# Altium integrated library Renesas Diode.IntLib: 1609 symbols (part 15 of 31)
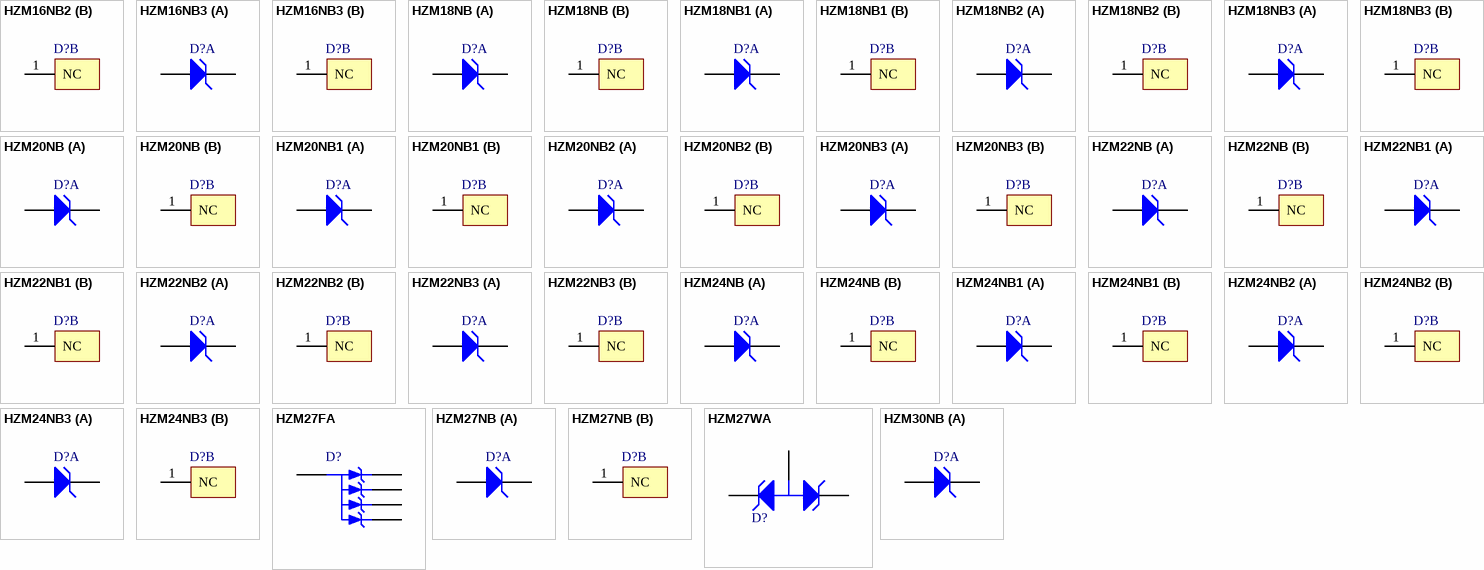
[diagram p59: symbols HZM16NB2 to HZM30NB]

## HZM16NB2
designator D?
Silicon Epitaxial Planar Zener Diode for Stabilizer; Published: 12-Feb-2010; DatasheetVersion: Rev.5.00, Dec-2004; PackageVersion: Aug-2005; PackageReference: PLSP0003ZC-A; Publisher: Altium Limited; PackageDescription: 3-Pin Plastic SOT-23 Package 0.95 mm Pitch, 2.8 mm Lead Span - Alternate Lead Configuration (MPAK); Code_JEITA: SC-59A; ComponentLink1Description: Manufacturer Link; ComponentLink1URL: http://sg.renesas.com/fmwk.jsp?cnt=diode_landing.jsp&fp=/products/discrete/diodes/; ComponentLink2Description: Datasheet; ComponentLink2URL: http://documentation.renesas.com/eng/products/diode/rej03g0483_hzm_n.pdf; ComponentLink3Description: Packaging Specification; ComponentLink3URL: http://sg.renesas.com/media/products/common_info/package/pdf/diode/code/plsp0003zc_a.pdf
footprint PLSP0003ZC-A_N (SOT23, 3-Leads, Body 2.9x1.5mm, Pitch 0.95mm, Lead Span 2.8mm - Alternate Lead Configuration, IPC Medium Density)
footprint PLSP0003ZC-A_L (SOT23, 3-Leads, Body 2.9x1.5mm, Pitch 0.95mm, Lead Span 2.8mm - Alternate Lead Configuration, IPC High Density)
footprint PLSP0003ZC-A_M (SOT23, 3-Leads, Body 2.9x1.5mm, Pitch 0.95mm, Lead Span 2.8mm - Alternate Lead Configuration, IPC Low Density)
signal-integrity model HZM16NB2
part A pins: 2 A, 3 K
part B pins: 1 NC

## HZM16NB3
designator D?
Silicon Epitaxial Planar Zener Diode for Stabilizer; Published: 12-Feb-2010; DatasheetVersion: Rev.5.00, Dec-2004; PackageVersion: Aug-2005; PackageReference: PLSP0003ZC-A; Publisher: Altium Limited; PackageDescription: 3-Pin Plastic SOT-23 Package 0.95 mm Pitch, 2.8 mm Lead Span - Alternate Lead Configuration (MPAK); Code_JEITA: SC-59A; ComponentLink1Description: Manufacturer Link; ComponentLink1URL: http://sg.renesas.com/fmwk.jsp?cnt=diode_landing.jsp&fp=/products/discrete/diodes/; ComponentLink2Description: Datasheet; ComponentLink2URL: http://documentation.renesas.com/eng/products/diode/rej03g0483_hzm_n.pdf; ComponentLink3Description: Packaging Specification; ComponentLink3URL: http://sg.renesas.com/media/products/common_info/package/pdf/diode/code/plsp0003zc_a.pdf
footprint PLSP0003ZC-A_N (SOT23, 3-Leads, Body 2.9x1.5mm, Pitch 0.95mm, Lead Span 2.8mm - Alternate Lead Configuration, IPC Medium Density)
footprint PLSP0003ZC-A_L (SOT23, 3-Leads, Body 2.9x1.5mm, Pitch 0.95mm, Lead Span 2.8mm - Alternate Lead Configuration, IPC High Density)
footprint PLSP0003ZC-A_M (SOT23, 3-Leads, Body 2.9x1.5mm, Pitch 0.95mm, Lead Span 2.8mm - Alternate Lead Configuration, IPC Low Density)
signal-integrity model HZM16NB3
part A pins: 2 A, 3 K
part B pins: 1 NC

## HZM18NB
designator D?
Silicon Epitaxial Planar Zener Diode for Stabilizer; Published: 12-Feb-2010; DatasheetVersion: Rev.5.00, Dec-2004; PackageVersion: Aug-2005; PackageReference: PLSP0003ZC-A; Publisher: Altium Limited; PackageDescription: 3-Pin Plastic SOT-23 Package 0.95 mm Pitch, 2.8 mm Lead Span - Alternate Lead Configuration (MPAK); Code_JEITA: SC-59A; ComponentLink1Description: Manufacturer Link; ComponentLink1URL: http://sg.renesas.com/fmwk.jsp?cnt=diode_landing.jsp&fp=/products/discrete/diodes/; ComponentLink2Description: Datasheet; ComponentLink2URL: http://documentation.renesas.com/eng/products/diode/rej03g0483_hzm_n.pdf; ComponentLink3Description: Packaging Specification; ComponentLink3URL: http://sg.renesas.com/media/products/common_info/package/pdf/diode/code/plsp0003zc_a.pdf
footprint PLSP0003ZC-A_N (SOT23, 3-Leads, Body 2.9x1.5mm, Pitch 0.95mm, Lead Span 2.8mm - Alternate Lead Configuration, IPC Medium Density)
footprint PLSP0003ZC-A_L (SOT23, 3-Leads, Body 2.9x1.5mm, Pitch 0.95mm, Lead Span 2.8mm - Alternate Lead Configuration, IPC High Density)
footprint PLSP0003ZC-A_M (SOT23, 3-Leads, Body 2.9x1.5mm, Pitch 0.95mm, Lead Span 2.8mm - Alternate Lead Configuration, IPC Low Density)
signal-integrity model HZM18NB
part A pins: 2 A, 3 K
part B pins: 1 NC

## HZM18NB1
designator D?
Silicon Epitaxial Planar Zener Diode for Stabilizer; Published: 12-Feb-2010; DatasheetVersion: Rev.5.00, Dec-2004; PackageVersion: Aug-2005; PackageReference: PLSP0003ZC-A; Publisher: Altium Limited; PackageDescription: 3-Pin Plastic SOT-23 Package 0.95 mm Pitch, 2.8 mm Lead Span - Alternate Lead Configuration (MPAK); Code_JEITA: SC-59A; ComponentLink1Description: Manufacturer Link; ComponentLink1URL: http://sg.renesas.com/fmwk.jsp?cnt=diode_landing.jsp&fp=/products/discrete/diodes/; ComponentLink2Description: Datasheet; ComponentLink2URL: http://documentation.renesas.com/eng/products/diode/rej03g0483_hzm_n.pdf; ComponentLink3Description: Packaging Specification; ComponentLink3URL: http://sg.renesas.com/media/products/common_info/package/pdf/diode/code/plsp0003zc_a.pdf
footprint PLSP0003ZC-A_N (SOT23, 3-Leads, Body 2.9x1.5mm, Pitch 0.95mm, Lead Span 2.8mm - Alternate Lead Configuration, IPC Medium Density)
footprint PLSP0003ZC-A_L (SOT23, 3-Leads, Body 2.9x1.5mm, Pitch 0.95mm, Lead Span 2.8mm - Alternate Lead Configuration, IPC High Density)
footprint PLSP0003ZC-A_M (SOT23, 3-Leads, Body 2.9x1.5mm, Pitch 0.95mm, Lead Span 2.8mm - Alternate Lead Configuration, IPC Low Density)
signal-integrity model HZM18NB1
part A pins: 2 A, 3 K
part B pins: 1 NC

## HZM18NB2
designator D?
Silicon Epitaxial Planar Zener Diode for Stabilizer; Published: 12-Feb-2010; DatasheetVersion: Rev.5.00, Dec-2004; PackageVersion: Aug-2005; PackageReference: PLSP0003ZC-A; Publisher: Altium Limited; PackageDescription: 3-Pin Plastic SOT-23 Package 0.95 mm Pitch, 2.8 mm Lead Span - Alternate Lead Configuration (MPAK); Code_JEITA: SC-59A; ComponentLink1Description: Manufacturer Link; ComponentLink1URL: http://sg.renesas.com/fmwk.jsp?cnt=diode_landing.jsp&fp=/products/discrete/diodes/; ComponentLink2Description: Datasheet; ComponentLink2URL: http://documentation.renesas.com/eng/products/diode/rej03g0483_hzm_n.pdf; ComponentLink3Description: Packaging Specification; ComponentLink3URL: http://sg.renesas.com/media/products/common_info/package/pdf/diode/code/plsp0003zc_a.pdf
footprint PLSP0003ZC-A_N (SOT23, 3-Leads, Body 2.9x1.5mm, Pitch 0.95mm, Lead Span 2.8mm - Alternate Lead Configuration, IPC Medium Density)
footprint PLSP0003ZC-A_L (SOT23, 3-Leads, Body 2.9x1.5mm, Pitch 0.95mm, Lead Span 2.8mm - Alternate Lead Configuration, IPC High Density)
footprint PLSP0003ZC-A_M (SOT23, 3-Leads, Body 2.9x1.5mm, Pitch 0.95mm, Lead Span 2.8mm - Alternate Lead Configuration, IPC Low Density)
signal-integrity model HZM18NB2
part A pins: 2 A, 3 K
part B pins: 1 NC

## HZM18NB3
designator D?
Silicon Epitaxial Planar Zener Diode for Stabilizer; Published: 12-Feb-2010; DatasheetVersion: Rev.5.00, Dec-2004; PackageVersion: Aug-2005; PackageReference: PLSP0003ZC-A; Publisher: Altium Limited; PackageDescription: 3-Pin Plastic SOT-23 Package 0.95 mm Pitch, 2.8 mm Lead Span - Alternate Lead Configuration (MPAK); Code_JEITA: SC-59A; ComponentLink1Description: Manufacturer Link; ComponentLink1URL: http://sg.renesas.com/fmwk.jsp?cnt=diode_landing.jsp&fp=/products/discrete/diodes/; ComponentLink2Description: Datasheet; ComponentLink2URL: http://documentation.renesas.com/eng/products/diode/rej03g0483_hzm_n.pdf; ComponentLink3Description: Packaging Specification; ComponentLink3URL: http://sg.renesas.com/media/products/common_info/package/pdf/diode/code/plsp0003zc_a.pdf
footprint PLSP0003ZC-A_N (SOT23, 3-Leads, Body 2.9x1.5mm, Pitch 0.95mm, Lead Span 2.8mm - Alternate Lead Configuration, IPC Medium Density)
footprint PLSP0003ZC-A_L (SOT23, 3-Leads, Body 2.9x1.5mm, Pitch 0.95mm, Lead Span 2.8mm - Alternate Lead Configuration, IPC High Density)
footprint PLSP0003ZC-A_M (SOT23, 3-Leads, Body 2.9x1.5mm, Pitch 0.95mm, Lead Span 2.8mm - Alternate Lead Configuration, IPC Low Density)
signal-integrity model HZM18NB3
part A pins: 2 A, 3 K
part B pins: 1 NC

## HZM20NB
designator D?
Silicon Epitaxial Planar Zener Diode for Stabilizer; Published: 12-Feb-2010; DatasheetVersion: Rev.5.00, Dec-2004; PackageVersion: Aug-2005; PackageReference: PLSP0003ZC-A; Publisher: Altium Limited; PackageDescription: 3-Pin Plastic SOT-23 Package 0.95 mm Pitch, 2.8 mm Lead Span - Alternate Lead Configuration (MPAK); Code_JEITA: SC-59A; ComponentLink1Description: Manufacturer Link; ComponentLink1URL: http://sg.renesas.com/fmwk.jsp?cnt=diode_landing.jsp&fp=/products/discrete/diodes/; ComponentLink2Description: Datasheet; ComponentLink2URL: http://documentation.renesas.com/eng/products/diode/rej03g0483_hzm_n.pdf; ComponentLink3Description: Packaging Specification; ComponentLink3URL: http://sg.renesas.com/media/products/common_info/package/pdf/diode/code/plsp0003zc_a.pdf
footprint PLSP0003ZC-A_N (SOT23, 3-Leads, Body 2.9x1.5mm, Pitch 0.95mm, Lead Span 2.8mm - Alternate Lead Configuration, IPC Medium Density)
footprint PLSP0003ZC-A_L (SOT23, 3-Leads, Body 2.9x1.5mm, Pitch 0.95mm, Lead Span 2.8mm - Alternate Lead Configuration, IPC High Density)
footprint PLSP0003ZC-A_M (SOT23, 3-Leads, Body 2.9x1.5mm, Pitch 0.95mm, Lead Span 2.8mm - Alternate Lead Configuration, IPC Low Density)
signal-integrity model HZM20NB
part A pins: 2 A, 3 K
part B pins: 1 NC

## HZM20NB1
designator D?
Silicon Epitaxial Planar Zener Diode for Stabilizer; Published: 12-Feb-2010; DatasheetVersion: Rev.5.00, Dec-2004; PackageVersion: Aug-2005; PackageReference: PLSP0003ZC-A; Publisher: Altium Limited; PackageDescription: 3-Pin Plastic SOT-23 Package 0.95 mm Pitch, 2.8 mm Lead Span - Alternate Lead Configuration (MPAK); Code_JEITA: SC-59A; ComponentLink1Description: Manufacturer Link; ComponentLink1URL: http://sg.renesas.com/fmwk.jsp?cnt=diode_landing.jsp&fp=/products/discrete/diodes/; ComponentLink2Description: Datasheet; ComponentLink2URL: http://documentation.renesas.com/eng/products/diode/rej03g0483_hzm_n.pdf; ComponentLink3Description: Packaging Specification; ComponentLink3URL: http://sg.renesas.com/media/products/common_info/package/pdf/diode/code/plsp0003zc_a.pdf
footprint PLSP0003ZC-A_N (SOT23, 3-Leads, Body 2.9x1.5mm, Pitch 0.95mm, Lead Span 2.8mm - Alternate Lead Configuration, IPC Medium Density)
footprint PLSP0003ZC-A_L (SOT23, 3-Leads, Body 2.9x1.5mm, Pitch 0.95mm, Lead Span 2.8mm - Alternate Lead Configuration, IPC High Density)
footprint PLSP0003ZC-A_M (SOT23, 3-Leads, Body 2.9x1.5mm, Pitch 0.95mm, Lead Span 2.8mm - Alternate Lead Configuration, IPC Low Density)
signal-integrity model HZM20NB1
part A pins: 2 A, 3 K
part B pins: 1 NC

## HZM20NB2
designator D?
Silicon Epitaxial Planar Zener Diode for Stabilizer; Published: 12-Feb-2010; DatasheetVersion: Rev.5.00, Dec-2004; PackageVersion: Aug-2005; PackageReference: PLSP0003ZC-A; Publisher: Altium Limited; PackageDescription: 3-Pin Plastic SOT-23 Package 0.95 mm Pitch, 2.8 mm Lead Span - Alternate Lead Configuration (MPAK); Code_JEITA: SC-59A; ComponentLink1Description: Manufacturer Link; ComponentLink1URL: http://sg.renesas.com/fmwk.jsp?cnt=diode_landing.jsp&fp=/products/discrete/diodes/; ComponentLink2Description: Datasheet; ComponentLink2URL: http://documentation.renesas.com/eng/products/diode/rej03g0483_hzm_n.pdf; ComponentLink3Description: Packaging Specification; ComponentLink3URL: http://sg.renesas.com/media/products/common_info/package/pdf/diode/code/plsp0003zc_a.pdf
footprint PLSP0003ZC-A_N (SOT23, 3-Leads, Body 2.9x1.5mm, Pitch 0.95mm, Lead Span 2.8mm - Alternate Lead Configuration, IPC Medium Density)
footprint PLSP0003ZC-A_L (SOT23, 3-Leads, Body 2.9x1.5mm, Pitch 0.95mm, Lead Span 2.8mm - Alternate Lead Configuration, IPC High Density)
footprint PLSP0003ZC-A_M (SOT23, 3-Leads, Body 2.9x1.5mm, Pitch 0.95mm, Lead Span 2.8mm - Alternate Lead Configuration, IPC Low Density)
signal-integrity model HZM20NB2
part A pins: 2 A, 3 K
part B pins: 1 NC

## HZM20NB3
designator D?
Silicon Epitaxial Planar Zener Diode for Stabilizer; Published: 12-Feb-2010; DatasheetVersion: Rev.5.00, Dec-2004; PackageVersion: Aug-2005; PackageReference: PLSP0003ZC-A; Publisher: Altium Limited; PackageDescription: 3-Pin Plastic SOT-23 Package 0.95 mm Pitch, 2.8 mm Lead Span - Alternate Lead Configuration (MPAK); Code_JEITA: SC-59A; ComponentLink1Description: Manufacturer Link; ComponentLink1URL: http://sg.renesas.com/fmwk.jsp?cnt=diode_landing.jsp&fp=/products/discrete/diodes/; ComponentLink2Description: Datasheet; ComponentLink2URL: http://documentation.renesas.com/eng/products/diode/rej03g0483_hzm_n.pdf; ComponentLink3Description: Packaging Specification; ComponentLink3URL: http://sg.renesas.com/media/products/common_info/package/pdf/diode/code/plsp0003zc_a.pdf
footprint PLSP0003ZC-A_N (SOT23, 3-Leads, Body 2.9x1.5mm, Pitch 0.95mm, Lead Span 2.8mm - Alternate Lead Configuration, IPC Medium Density)
footprint PLSP0003ZC-A_L (SOT23, 3-Leads, Body 2.9x1.5mm, Pitch 0.95mm, Lead Span 2.8mm - Alternate Lead Configuration, IPC High Density)
footprint PLSP0003ZC-A_M (SOT23, 3-Leads, Body 2.9x1.5mm, Pitch 0.95mm, Lead Span 2.8mm - Alternate Lead Configuration, IPC Low Density)
signal-integrity model HZM20NB3
part A pins: 2 A, 3 K
part B pins: 1 NC

## HZM22NB
designator D?
Silicon Epitaxial Planar Zener Diode for Stabilizer; Published: 12-Feb-2010; DatasheetVersion: Rev.5.00, Dec-2004; PackageVersion: Aug-2005; PackageReference: PLSP0003ZC-A; Publisher: Altium Limited; PackageDescription: 3-Pin Plastic SOT-23 Package 0.95 mm Pitch, 2.8 mm Lead Span - Alternate Lead Configuration (MPAK); Code_JEITA: SC-59A; ComponentLink1Description: Manufacturer Link; ComponentLink1URL: http://sg.renesas.com/fmwk.jsp?cnt=diode_landing.jsp&fp=/products/discrete/diodes/; ComponentLink2Description: Datasheet; ComponentLink2URL: http://documentation.renesas.com/eng/products/diode/rej03g0483_hzm_n.pdf; ComponentLink3Description: Packaging Specification; ComponentLink3URL: http://sg.renesas.com/media/products/common_info/package/pdf/diode/code/plsp0003zc_a.pdf
footprint PLSP0003ZC-A_N (SOT23, 3-Leads, Body 2.9x1.5mm, Pitch 0.95mm, Lead Span 2.8mm - Alternate Lead Configuration, IPC Medium Density)
footprint PLSP0003ZC-A_L (SOT23, 3-Leads, Body 2.9x1.5mm, Pitch 0.95mm, Lead Span 2.8mm - Alternate Lead Configuration, IPC High Density)
footprint PLSP0003ZC-A_M (SOT23, 3-Leads, Body 2.9x1.5mm, Pitch 0.95mm, Lead Span 2.8mm - Alternate Lead Configuration, IPC Low Density)
signal-integrity model HZM22NB
part A pins: 2 A, 3 K
part B pins: 1 NC

## HZM22NB1
designator D?
Silicon Epitaxial Planar Zener Diode for Stabilizer; Published: 12-Feb-2010; DatasheetVersion: Rev.5.00, Dec-2004; PackageVersion: Aug-2005; PackageReference: PLSP0003ZC-A; Publisher: Altium Limited; PackageDescription: 3-Pin Plastic SOT-23 Package 0.95 mm Pitch, 2.8 mm Lead Span - Alternate Lead Configuration (MPAK); Code_JEITA: SC-59A; ComponentLink1Description: Manufacturer Link; ComponentLink1URL: http://sg.renesas.com/fmwk.jsp?cnt=diode_landing.jsp&fp=/products/discrete/diodes/; ComponentLink2Description: Datasheet; ComponentLink2URL: http://documentation.renesas.com/eng/products/diode/rej03g0483_hzm_n.pdf; ComponentLink3Description: Packaging Specification; ComponentLink3URL: http://sg.renesas.com/media/products/common_info/package/pdf/diode/code/plsp0003zc_a.pdf
footprint PLSP0003ZC-A_N (SOT23, 3-Leads, Body 2.9x1.5mm, Pitch 0.95mm, Lead Span 2.8mm - Alternate Lead Configuration, IPC Medium Density)
footprint PLSP0003ZC-A_L (SOT23, 3-Leads, Body 2.9x1.5mm, Pitch 0.95mm, Lead Span 2.8mm - Alternate Lead Configuration, IPC High Density)
footprint PLSP0003ZC-A_M (SOT23, 3-Leads, Body 2.9x1.5mm, Pitch 0.95mm, Lead Span 2.8mm - Alternate Lead Configuration, IPC Low Density)
signal-integrity model HZM22NB1
part A pins: 2 A, 3 K
part B pins: 1 NC

## HZM22NB2
designator D?
Silicon Epitaxial Planar Zener Diode for Stabilizer; Published: 12-Feb-2010; DatasheetVersion: Rev.5.00, Dec-2004; PackageVersion: Aug-2005; PackageReference: PLSP0003ZC-A; Publisher: Altium Limited; PackageDescription: 3-Pin Plastic SOT-23 Package 0.95 mm Pitch, 2.8 mm Lead Span - Alternate Lead Configuration (MPAK); Code_JEITA: SC-59A; ComponentLink1Description: Manufacturer Link; ComponentLink1URL: http://sg.renesas.com/fmwk.jsp?cnt=diode_landing.jsp&fp=/products/discrete/diodes/; ComponentLink2Description: Datasheet; ComponentLink2URL: http://documentation.renesas.com/eng/products/diode/rej03g0483_hzm_n.pdf; ComponentLink3Description: Packaging Specification; ComponentLink3URL: http://sg.renesas.com/media/products/common_info/package/pdf/diode/code/plsp0003zc_a.pdf
footprint PLSP0003ZC-A_N (SOT23, 3-Leads, Body 2.9x1.5mm, Pitch 0.95mm, Lead Span 2.8mm - Alternate Lead Configuration, IPC Medium Density)
footprint PLSP0003ZC-A_L (SOT23, 3-Leads, Body 2.9x1.5mm, Pitch 0.95mm, Lead Span 2.8mm - Alternate Lead Configuration, IPC High Density)
footprint PLSP0003ZC-A_M (SOT23, 3-Leads, Body 2.9x1.5mm, Pitch 0.95mm, Lead Span 2.8mm - Alternate Lead Configuration, IPC Low Density)
signal-integrity model HZM22NB2
part A pins: 2 A, 3 K
part B pins: 1 NC

## HZM22NB3
designator D?
Silicon Epitaxial Planar Zener Diode for Stabilizer; Published: 12-Feb-2010; DatasheetVersion: Rev.5.00, Dec-2004; PackageVersion: Aug-2005; PackageReference: PLSP0003ZC-A; Publisher: Altium Limited; PackageDescription: 3-Pin Plastic SOT-23 Package 0.95 mm Pitch, 2.8 mm Lead Span - Alternate Lead Configuration (MPAK); Code_JEITA: SC-59A; ComponentLink1Description: Manufacturer Link; ComponentLink1URL: http://sg.renesas.com/fmwk.jsp?cnt=diode_landing.jsp&fp=/products/discrete/diodes/; ComponentLink2Description: Datasheet; ComponentLink2URL: http://documentation.renesas.com/eng/products/diode/rej03g0483_hzm_n.pdf; ComponentLink3Description: Packaging Specification; ComponentLink3URL: http://sg.renesas.com/media/products/common_info/package/pdf/diode/code/plsp0003zc_a.pdf
footprint PLSP0003ZC-A_N (SOT23, 3-Leads, Body 2.9x1.5mm, Pitch 0.95mm, Lead Span 2.8mm - Alternate Lead Configuration, IPC Medium Density)
footprint PLSP0003ZC-A_L (SOT23, 3-Leads, Body 2.9x1.5mm, Pitch 0.95mm, Lead Span 2.8mm - Alternate Lead Configuration, IPC High Density)
footprint PLSP0003ZC-A_M (SOT23, 3-Leads, Body 2.9x1.5mm, Pitch 0.95mm, Lead Span 2.8mm - Alternate Lead Configuration, IPC Low Density)
signal-integrity model HZM22NB3
part A pins: 2 A, 3 K
part B pins: 1 NC

## HZM24NB
designator D?
Silicon Epitaxial Planar Zener Diode for Stabilizer; Published: 12-Feb-2010; DatasheetVersion: Rev.5.00, Dec-2004; PackageVersion: Aug-2005; PackageReference: PLSP0003ZC-A; Publisher: Altium Limited; PackageDescription: 3-Pin Plastic SOT-23 Package 0.95 mm Pitch, 2.8 mm Lead Span - Alternate Lead Configuration (MPAK); Code_JEITA: SC-59A; ComponentLink1Description: Manufacturer Link; ComponentLink1URL: http://sg.renesas.com/fmwk.jsp?cnt=diode_landing.jsp&fp=/products/discrete/diodes/; ComponentLink2Description: Datasheet; ComponentLink2URL: http://documentation.renesas.com/eng/products/diode/rej03g0483_hzm_n.pdf; ComponentLink3Description: Packaging Specification; ComponentLink3URL: http://sg.renesas.com/media/products/common_info/package/pdf/diode/code/plsp0003zc_a.pdf
footprint PLSP0003ZC-A_N (SOT23, 3-Leads, Body 2.9x1.5mm, Pitch 0.95mm, Lead Span 2.8mm - Alternate Lead Configuration, IPC Medium Density)
footprint PLSP0003ZC-A_L (SOT23, 3-Leads, Body 2.9x1.5mm, Pitch 0.95mm, Lead Span 2.8mm - Alternate Lead Configuration, IPC High Density)
footprint PLSP0003ZC-A_M (SOT23, 3-Leads, Body 2.9x1.5mm, Pitch 0.95mm, Lead Span 2.8mm - Alternate Lead Configuration, IPC Low Density)
signal-integrity model HZM24NB
part A pins: 2 A, 3 K
part B pins: 1 NC

## HZM24NB1
designator D?
Silicon Epitaxial Planar Zener Diode for Stabilizer; Published: 12-Feb-2010; DatasheetVersion: Rev.5.00, Dec-2004; PackageVersion: Aug-2005; PackageReference: PLSP0003ZC-A; Publisher: Altium Limited; PackageDescription: 3-Pin Plastic SOT-23 Package 0.95 mm Pitch, 2.8 mm Lead Span - Alternate Lead Configuration (MPAK); Code_JEITA: SC-59A; ComponentLink1Description: Manufacturer Link; ComponentLink1URL: http://sg.renesas.com/fmwk.jsp?cnt=diode_landing.jsp&fp=/products/discrete/diodes/; ComponentLink2Description: Datasheet; ComponentLink2URL: http://documentation.renesas.com/eng/products/diode/rej03g0483_hzm_n.pdf; ComponentLink3Description: Packaging Specification; ComponentLink3URL: http://sg.renesas.com/media/products/common_info/package/pdf/diode/code/plsp0003zc_a.pdf
footprint PLSP0003ZC-A_N (SOT23, 3-Leads, Body 2.9x1.5mm, Pitch 0.95mm, Lead Span 2.8mm - Alternate Lead Configuration, IPC Medium Density)
footprint PLSP0003ZC-A_L (SOT23, 3-Leads, Body 2.9x1.5mm, Pitch 0.95mm, Lead Span 2.8mm - Alternate Lead Configuration, IPC High Density)
footprint PLSP0003ZC-A_M (SOT23, 3-Leads, Body 2.9x1.5mm, Pitch 0.95mm, Lead Span 2.8mm - Alternate Lead Configuration, IPC Low Density)
signal-integrity model HZM24NB1
part A pins: 2 A, 3 K
part B pins: 1 NC

## HZM24NB2
designator D?
Silicon Epitaxial Planar Zener Diode for Stabilizer; Published: 12-Feb-2010; DatasheetVersion: Rev.5.00, Dec-2004; PackageVersion: Aug-2005; PackageReference: PLSP0003ZC-A; Publisher: Altium Limited; PackageDescription: 3-Pin Plastic SOT-23 Package 0.95 mm Pitch, 2.8 mm Lead Span - Alternate Lead Configuration (MPAK); Code_JEITA: SC-59A; ComponentLink1Description: Manufacturer Link; ComponentLink1URL: http://sg.renesas.com/fmwk.jsp?cnt=diode_landing.jsp&fp=/products/discrete/diodes/; ComponentLink2Description: Datasheet; ComponentLink2URL: http://documentation.renesas.com/eng/products/diode/rej03g0483_hzm_n.pdf; ComponentLink3Description: Packaging Specification; ComponentLink3URL: http://sg.renesas.com/media/products/common_info/package/pdf/diode/code/plsp0003zc_a.pdf
footprint PLSP0003ZC-A_N (SOT23, 3-Leads, Body 2.9x1.5mm, Pitch 0.95mm, Lead Span 2.8mm - Alternate Lead Configuration, IPC Medium Density)
footprint PLSP0003ZC-A_L (SOT23, 3-Leads, Body 2.9x1.5mm, Pitch 0.95mm, Lead Span 2.8mm - Alternate Lead Configuration, IPC High Density)
footprint PLSP0003ZC-A_M (SOT23, 3-Leads, Body 2.9x1.5mm, Pitch 0.95mm, Lead Span 2.8mm - Alternate Lead Configuration, IPC Low Density)
signal-integrity model HZM24NB2
part A pins: 2 A, 3 K
part B pins: 1 NC

## HZM24NB3
designator D?
Silicon Epitaxial Planar Zener Diode for Stabilizer; Published: 12-Feb-2010; DatasheetVersion: Rev.5.00, Dec-2004; PackageVersion: Aug-2005; PackageReference: PLSP0003ZC-A; Publisher: Altium Limited; PackageDescription: 3-Pin Plastic SOT-23 Package 0.95 mm Pitch, 2.8 mm Lead Span - Alternate Lead Configuration (MPAK); Code_JEITA: SC-59A; ComponentLink1Description: Manufacturer Link; ComponentLink1URL: http://sg.renesas.com/fmwk.jsp?cnt=diode_landing.jsp&fp=/products/discrete/diodes/; ComponentLink2Description: Datasheet; ComponentLink2URL: http://documentation.renesas.com/eng/products/diode/rej03g0483_hzm_n.pdf; ComponentLink3Description: Packaging Specification; ComponentLink3URL: http://sg.renesas.com/media/products/common_info/package/pdf/diode/code/plsp0003zc_a.pdf
footprint PLSP0003ZC-A_N (SOT23, 3-Leads, Body 2.9x1.5mm, Pitch 0.95mm, Lead Span 2.8mm - Alternate Lead Configuration, IPC Medium Density)
footprint PLSP0003ZC-A_L (SOT23, 3-Leads, Body 2.9x1.5mm, Pitch 0.95mm, Lead Span 2.8mm - Alternate Lead Configuration, IPC High Density)
footprint PLSP0003ZC-A_M (SOT23, 3-Leads, Body 2.9x1.5mm, Pitch 0.95mm, Lead Span 2.8mm - Alternate Lead Configuration, IPC Low Density)
signal-integrity model HZM24NB3
part A pins: 2 A, 3 K
part B pins: 1 NC

## HZM27FA
designator D?
Silicon Epitaxial Planar Zener Diode for Surge Absorption; Published: 12-Feb-2010; DatasheetVersion: Rev.4.00, Jun-2005; PackageVersion: Aug-2005; PackageReference: PLSP0005ZC-A; Publisher: Altium Limited; PackageDescription: 5-Pin SOT-23 Package 0.95 mm Pitch, 2.8 mm Lead Span - Reverse Pinning (MPAK-5); Code_JEITA: SC-74A; ComponentLink1Description: Manufacturer Link; ComponentLink1URL: http://sg.renesas.com/fmwk.jsp?cnt=diode_landing.jsp&fp=/products/discrete/diodes/; ComponentLink2Description: Datasheet; ComponentLink2URL: http://documentation.renesas.com/eng/products/diode/rej03g1213_hzm27fa.pdf; ComponentLink3Description: Packaging Specification; ComponentLink3URL: http://sg.renesas.com/media/products/common_info/package/pdf/diode/code/plsp0005zc_a.pdf
footprint PLSP0005ZC-A_N (SOT23, 5-Leads, Body 2.9x1.7mm, Pitch 0.95mm, Lead Span 2.8mm - Reverse Pinning, IPC Medium Density)
footprint PLSP0005ZC-A_L (SOT23, 5-Leads, Body 2.9x1.7mm, Pitch 0.95mm, Lead Span 2.8mm - Reverse Pinning, IPC High Density)
footprint PLSP0005ZC-A_M (SOT23, 5-Leads, Body 2.9x1.7mm, Pitch 0.95mm, Lead Span 2.8mm - Reverse Pinning, IPC Low Density)
signal-integrity model HZM27FA
pins: 1 K1, 2 K2, 3 K3, 4 A, 5 K4

## HZM27NB
designator D?
Silicon Epitaxial Planar Zener Diode for Stabilizer; Published: 12-Feb-2010; DatasheetVersion: Rev.5.00, Dec-2004; PackageVersion: Aug-2005; PackageReference: PLSP0003ZC-A; Publisher: Altium Limited; PackageDescription: 3-Pin Plastic SOT-23 Package 0.95 mm Pitch, 2.8 mm Lead Span - Alternate Lead Configuration (MPAK); Code_JEITA: SC-59A; ComponentLink1Description: Manufacturer Link; ComponentLink1URL: http://sg.renesas.com/fmwk.jsp?cnt=diode_landing.jsp&fp=/products/discrete/diodes/; ComponentLink2Description: Datasheet; ComponentLink2URL: http://documentation.renesas.com/eng/products/diode/rej03g0483_hzm_n.pdf; ComponentLink3Description: Packaging Specification; ComponentLink3URL: http://sg.renesas.com/media/products/common_info/package/pdf/diode/code/plsp0003zc_a.pdf
footprint PLSP0003ZC-A_N (SOT23, 3-Leads, Body 2.9x1.5mm, Pitch 0.95mm, Lead Span 2.8mm - Alternate Lead Configuration, IPC Medium Density)
footprint PLSP0003ZC-A_L (SOT23, 3-Leads, Body 2.9x1.5mm, Pitch 0.95mm, Lead Span 2.8mm - Alternate Lead Configuration, IPC High Density)
footprint PLSP0003ZC-A_M (SOT23, 3-Leads, Body 2.9x1.5mm, Pitch 0.95mm, Lead Span 2.8mm - Alternate Lead Configuration, IPC Low Density)
signal-integrity model HZM27NB
part A pins: 2 A, 3 K
part B pins: 1 NC

## HZM27WA
designator D?
Silicon Epitaxial Planar Zener Diode for Surge Absorption; Published: 12-Feb-2010; DatasheetVersion: Rev.4.00, Jun-2005; PackageVersion: Aug-2005; PackageReference: PLSP0003ZC-A; Publisher: Altium Limited; PackageDescription: 3-Pin Plastic SOT-23 Package 0.95 mm Pitch, 2.8 mm Lead Span - Alternate Lead Configuration (MPAK); Code_JEITA: SC-59A; ComponentLink1Description: Manufacturer Link; ComponentLink1URL: http://sg.renesas.com/fmwk.jsp?cnt=diode_landing.jsp&fp=/products/discrete/diodes/; ComponentLink2Description: Datasheet; ComponentLink2URL: http://documentation.renesas.com/eng/products/diode/rej03g1214_hzm27wa.pdf; ComponentLink3Description: Packaging Specification; ComponentLink3URL: http://sg.renesas.com/media/products/common_info/package/pdf/diode/code/plsp0003zc_a.pdf
footprint PLSP0003ZC-A_N (SOT23, 3-Leads, Body 2.9x1.5mm, Pitch 0.95mm, Lead Span 2.8mm - Alternate Lead Configuration, IPC Medium Density)
footprint PLSP0003ZC-A_L (SOT23, 3-Leads, Body 2.9x1.5mm, Pitch 0.95mm, Lead Span 2.8mm - Alternate Lead Configuration, IPC High Density)
footprint PLSP0003ZC-A_M (SOT23, 3-Leads, Body 2.9x1.5mm, Pitch 0.95mm, Lead Span 2.8mm - Alternate Lead Configuration, IPC Low Density)
signal-integrity model HZM27WA
pins: 1 K1, 2 K2, 3 A

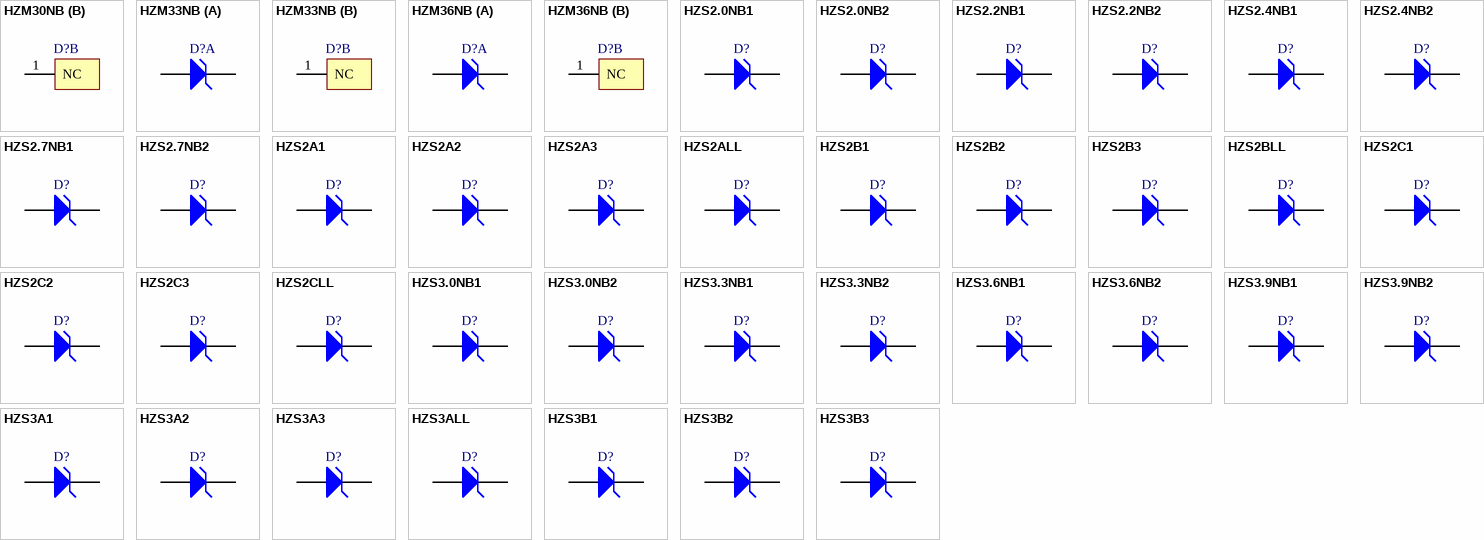
[diagram p21: symbols HZM30NB to HZS3B3]

## HZM30NB
designator D?
Silicon Epitaxial Planar Zener Diode for Stabilizer; Published: 12-Feb-2010; DatasheetVersion: Rev.5.00, Dec-2004; PackageVersion: Aug-2005; PackageReference: PLSP0003ZC-A; Publisher: Altium Limited; PackageDescription: 3-Pin Plastic SOT-23 Package 0.95 mm Pitch, 2.8 mm Lead Span - Alternate Lead Configuration (MPAK); Code_JEITA: SC-59A; ComponentLink1Description: Manufacturer Link; ComponentLink1URL: http://sg.renesas.com/fmwk.jsp?cnt=diode_landing.jsp&fp=/products/discrete/diodes/; ComponentLink2Description: Datasheet; ComponentLink2URL: http://documentation.renesas.com/eng/products/diode/rej03g0483_hzm_n.pdf; ComponentLink3Description: Packaging Specification; ComponentLink3URL: http://sg.renesas.com/media/products/common_info/package/pdf/diode/code/plsp0003zc_a.pdf
footprint PLSP0003ZC-A_N (SOT23, 3-Leads, Body 2.9x1.5mm, Pitch 0.95mm, Lead Span 2.8mm - Alternate Lead Configuration, IPC Medium Density)
footprint PLSP0003ZC-A_L (SOT23, 3-Leads, Body 2.9x1.5mm, Pitch 0.95mm, Lead Span 2.8mm - Alternate Lead Configuration, IPC High Density)
footprint PLSP0003ZC-A_M (SOT23, 3-Leads, Body 2.9x1.5mm, Pitch 0.95mm, Lead Span 2.8mm - Alternate Lead Configuration, IPC Low Density)
signal-integrity model HZM30NB
part A pins: 2 A, 3 K
part B pins: 1 NC

## HZM33NB
designator D?
Silicon Epitaxial Planar Zener Diode for Stabilizer; Published: 12-Feb-2010; DatasheetVersion: Rev.5.00, Dec-2004; PackageVersion: Aug-2005; PackageReference: PLSP0003ZC-A; Publisher: Altium Limited; PackageDescription: 3-Pin Plastic SOT-23 Package 0.95 mm Pitch, 2.8 mm Lead Span - Alternate Lead Configuration (MPAK); Code_JEITA: SC-59A; ComponentLink1Description: Manufacturer Link; ComponentLink1URL: http://sg.renesas.com/fmwk.jsp?cnt=diode_landing.jsp&fp=/products/discrete/diodes/; ComponentLink2Description: Datasheet; ComponentLink2URL: http://documentation.renesas.com/eng/products/diode/rej03g0483_hzm_n.pdf; ComponentLink3Description: Packaging Specification; ComponentLink3URL: http://sg.renesas.com/media/products/common_info/package/pdf/diode/code/plsp0003zc_a.pdf
footprint PLSP0003ZC-A_N (SOT23, 3-Leads, Body 2.9x1.5mm, Pitch 0.95mm, Lead Span 2.8mm - Alternate Lead Configuration, IPC Medium Density)
footprint PLSP0003ZC-A_L (SOT23, 3-Leads, Body 2.9x1.5mm, Pitch 0.95mm, Lead Span 2.8mm - Alternate Lead Configuration, IPC High Density)
footprint PLSP0003ZC-A_M (SOT23, 3-Leads, Body 2.9x1.5mm, Pitch 0.95mm, Lead Span 2.8mm - Alternate Lead Configuration, IPC Low Density)
signal-integrity model HZM33NB
part A pins: 2 A, 3 K
part B pins: 1 NC

## HZM36NB
designator D?
Silicon Epitaxial Planar Zener Diode for Stabilizer; Published: 12-Feb-2010; DatasheetVersion: Rev.5.00, Dec-2004; PackageVersion: Aug-2005; PackageReference: PLSP0003ZC-A; Publisher: Altium Limited; PackageDescription: 3-Pin Plastic SOT-23 Package 0.95 mm Pitch, 2.8 mm Lead Span - Alternate Lead Configuration (MPAK); Code_JEITA: SC-59A; ComponentLink1Description: Manufacturer Link; ComponentLink1URL: http://sg.renesas.com/fmwk.jsp?cnt=diode_landing.jsp&fp=/products/discrete/diodes/; ComponentLink2Description: Datasheet; ComponentLink2URL: http://documentation.renesas.com/eng/products/diode/rej03g0483_hzm_n.pdf; ComponentLink3Description: Packaging Specification; ComponentLink3URL: http://sg.renesas.com/media/products/common_info/package/pdf/diode/code/plsp0003zc_a.pdf
footprint PLSP0003ZC-A_N (SOT23, 3-Leads, Body 2.9x1.5mm, Pitch 0.95mm, Lead Span 2.8mm - Alternate Lead Configuration, IPC Medium Density)
footprint PLSP0003ZC-A_L (SOT23, 3-Leads, Body 2.9x1.5mm, Pitch 0.95mm, Lead Span 2.8mm - Alternate Lead Configuration, IPC High Density)
footprint PLSP0003ZC-A_M (SOT23, 3-Leads, Body 2.9x1.5mm, Pitch 0.95mm, Lead Span 2.8mm - Alternate Lead Configuration, IPC Low Density)
signal-integrity model HZM36NB
part A pins: 2 A, 3 K
part B pins: 1 NC

## HZS2.0NB1
designator D?
Silicon Epitaxial Planar Zener Diodes for Stabilized Power Supply; Published: 12-Feb-2010; DatasheetVersion: Rev.3.00, Nov-2007; PackageVersion: Jul-2006; PackageReference: GRZZ0002ZC-A; Publisher: Altium Limited; PackageDescription: Diode, Axial; Body 2.4 x 2.0 mm (LxDia.), Lead Dia. 0.4 mm (nom); ComponentLink1Description: Manufacturer Link; ComponentLink1URL: http://sg.renesas.com/fmwk.jsp?cnt=diode_landing.jsp&fp=/products/discrete/diodes/; ComponentLink2Description: Datasheet; ComponentLink2URL: http://documentation.renesas.com/eng/products/diode/rej03g0185_hzs_n.pdf; ComponentLink3Description: Packaging Specification; ComponentLink3URL: http://sg.renesas.com/media/products/common_info/package/pdf/diode/code/grzz0002zc_a.pdf
footprint GRZZ0002ZC-A (Diode, Axial; Body 2.4 x 2.2 mm (LxDia. max), Lead Dia. 0.4 mm (nom))
signal-integrity model HZS2.0NB1
pins: 1 K, 2 A

## HZS2.0NB2
designator D?
Silicon Epitaxial Planar Zener Diodes for Stabilized Power Supply; Published: 12-Feb-2010; DatasheetVersion: Rev.3.00, Nov-2007; PackageVersion: Jul-2006; PackageReference: GRZZ0002ZC-A; Publisher: Altium Limited; PackageDescription: Diode, Axial; Body 2.4 x 2.0 mm (LxDia.), Lead Dia. 0.4 mm (nom); ComponentLink1Description: Manufacturer Link; ComponentLink1URL: http://sg.renesas.com/fmwk.jsp?cnt=diode_landing.jsp&fp=/products/discrete/diodes/; ComponentLink2Description: Datasheet; ComponentLink2URL: http://documentation.renesas.com/eng/products/diode/rej03g0185_hzs_n.pdf; ComponentLink3Description: Packaging Specification; ComponentLink3URL: http://sg.renesas.com/media/products/common_info/package/pdf/diode/code/grzz0002zc_a.pdf
footprint GRZZ0002ZC-A (Diode, Axial; Body 2.4 x 2.2 mm (LxDia. max), Lead Dia. 0.4 mm (nom))
signal-integrity model HZS2.0NB2
pins: 1 K, 2 A

## HZS2.2NB1
designator D?
Silicon Epitaxial Planar Zener Diodes for Stabilized Power Supply; Published: 12-Feb-2010; DatasheetVersion: Rev.3.00, Nov-2007; PackageVersion: Jul-2006; PackageReference: GRZZ0002ZC-A; Publisher: Altium Limited; PackageDescription: Diode, Axial; Body 2.4 x 2.0 mm (LxDia.), Lead Dia. 0.4 mm (nom); ComponentLink1Description: Manufacturer Link; ComponentLink1URL: http://sg.renesas.com/fmwk.jsp?cnt=diode_landing.jsp&fp=/products/discrete/diodes/; ComponentLink2Description: Datasheet; ComponentLink2URL: http://documentation.renesas.com/eng/products/diode/rej03g0185_hzs_n.pdf; ComponentLink3Description: Packaging Specification; ComponentLink3URL: http://sg.renesas.com/media/products/common_info/package/pdf/diode/code/grzz0002zc_a.pdf
footprint GRZZ0002ZC-A (Diode, Axial; Body 2.4 x 2.2 mm (LxDia. max), Lead Dia. 0.4 mm (nom))
signal-integrity model HZS2.2NB1
pins: 1 K, 2 A

## HZS2.2NB2
designator D?
Silicon Epitaxial Planar Zener Diodes for Stabilized Power Supply; Published: 12-Feb-2010; DatasheetVersion: Rev.3.00, Nov-2007; PackageVersion: Jul-2006; PackageReference: GRZZ0002ZC-A; Publisher: Altium Limited; PackageDescription: Diode, Axial; Body 2.4 x 2.0 mm (LxDia.), Lead Dia. 0.4 mm (nom); ComponentLink1Description: Manufacturer Link; ComponentLink1URL: http://sg.renesas.com/fmwk.jsp?cnt=diode_landing.jsp&fp=/products/discrete/diodes/; ComponentLink2Description: Datasheet; ComponentLink2URL: http://documentation.renesas.com/eng/products/diode/rej03g0185_hzs_n.pdf; ComponentLink3Description: Packaging Specification; ComponentLink3URL: http://sg.renesas.com/media/products/common_info/package/pdf/diode/code/grzz0002zc_a.pdf
footprint GRZZ0002ZC-A (Diode, Axial; Body 2.4 x 2.2 mm (LxDia. max), Lead Dia. 0.4 mm (nom))
signal-integrity model HZS2.2NB2
pins: 1 K, 2 A

## HZS2.4NB1
designator D?
Silicon Epitaxial Planar Zener Diodes for Stabilized Power Supply; Published: 12-Feb-2010; DatasheetVersion: Rev.3.00, Nov-2007; PackageVersion: Jul-2006; PackageReference: GRZZ0002ZC-A; Publisher: Altium Limited; PackageDescription: Diode, Axial; Body 2.4 x 2.0 mm (LxDia.), Lead Dia. 0.4 mm (nom); ComponentLink1Description: Manufacturer Link; ComponentLink1URL: http://sg.renesas.com/fmwk.jsp?cnt=diode_landing.jsp&fp=/products/discrete/diodes/; ComponentLink2Description: Datasheet; ComponentLink2URL: http://documentation.renesas.com/eng/products/diode/rej03g0185_hzs_n.pdf; ComponentLink3Description: Packaging Specification; ComponentLink3URL: http://sg.renesas.com/media/products/common_info/package/pdf/diode/code/grzz0002zc_a.pdf
footprint GRZZ0002ZC-A (Diode, Axial; Body 2.4 x 2.2 mm (LxDia. max), Lead Dia. 0.4 mm (nom))
signal-integrity model HZS2.4NB1
pins: 1 K, 2 A

## HZS2.4NB2
designator D?
Silicon Epitaxial Planar Zener Diodes for Stabilized Power Supply; Published: 12-Feb-2010; DatasheetVersion: Rev.3.00, Nov-2007; PackageVersion: Jul-2006; PackageReference: GRZZ0002ZC-A; Publisher: Altium Limited; PackageDescription: Diode, Axial; Body 2.4 x 2.0 mm (LxDia.), Lead Dia. 0.4 mm (nom); ComponentLink1Description: Manufacturer Link; ComponentLink1URL: http://sg.renesas.com/fmwk.jsp?cnt=diode_landing.jsp&fp=/products/discrete/diodes/; ComponentLink2Description: Datasheet; ComponentLink2URL: http://documentation.renesas.com/eng/products/diode/rej03g0185_hzs_n.pdf; ComponentLink3Description: Packaging Specification; ComponentLink3URL: http://sg.renesas.com/media/products/common_info/package/pdf/diode/code/grzz0002zc_a.pdf
footprint GRZZ0002ZC-A (Diode, Axial; Body 2.4 x 2.2 mm (LxDia. max), Lead Dia. 0.4 mm (nom))
signal-integrity model HZS2.4NB2
pins: 1 K, 2 A

## HZS2.7NB1
designator D?
Silicon Epitaxial Planar Zener Diodes for Stabilized Power Supply; Published: 12-Feb-2010; DatasheetVersion: Rev.3.00, Nov-2007; PackageVersion: Jul-2006; PackageReference: GRZZ0002ZC-A; Publisher: Altium Limited; PackageDescription: Diode, Axial; Body 2.4 x 2.0 mm (LxDia.), Lead Dia. 0.4 mm (nom); ComponentLink1Description: Manufacturer Link; ComponentLink1URL: http://sg.renesas.com/fmwk.jsp?cnt=diode_landing.jsp&fp=/products/discrete/diodes/; ComponentLink2Description: Datasheet; ComponentLink2URL: http://documentation.renesas.com/eng/products/diode/rej03g0185_hzs_n.pdf; ComponentLink3Description: Packaging Specification; ComponentLink3URL: http://sg.renesas.com/media/products/common_info/package/pdf/diode/code/grzz0002zc_a.pdf
footprint GRZZ0002ZC-A (Diode, Axial; Body 2.4 x 2.2 mm (LxDia. max), Lead Dia. 0.4 mm (nom))
signal-integrity model HZS2.7NB1
pins: 1 K, 2 A

## HZS2.7NB2
designator D?
Silicon Epitaxial Planar Zener Diodes for Stabilized Power Supply; Published: 12-Feb-2010; DatasheetVersion: Rev.3.00, Nov-2007; PackageVersion: Jul-2006; PackageReference: GRZZ0002ZC-A; Publisher: Altium Limited; PackageDescription: Diode, Axial; Body 2.4 x 2.0 mm (LxDia.), Lead Dia. 0.4 mm (nom); ComponentLink1Description: Manufacturer Link; ComponentLink1URL: http://sg.renesas.com/fmwk.jsp?cnt=diode_landing.jsp&fp=/products/discrete/diodes/; ComponentLink2Description: Datasheet; ComponentLink2URL: http://documentation.renesas.com/eng/products/diode/rej03g0185_hzs_n.pdf; ComponentLink3Description: Packaging Specification; ComponentLink3URL: http://sg.renesas.com/media/products/common_info/package/pdf/diode/code/grzz0002zc_a.pdf
footprint GRZZ0002ZC-A (Diode, Axial; Body 2.4 x 2.2 mm (LxDia. max), Lead Dia. 0.4 mm (nom))
signal-integrity model HZS2.7NB2
pins: 1 K, 2 A

## HZS2A1
designator D?
Silicon Epitaxial Planar Zener Diode for Stabilized Power Supply; Published: 12-Feb-2010; DatasheetVersion: Rev.5.00, Oct-2007; PackageVersion: Jul-2006; PackageReference: GRZZ0002ZC-A; Publisher: Altium Limited; PackageDescription: Diode, Axial; Body 2.4 x 2.0 mm (LxDia.), Lead Dia. 0.4 mm (nom); ComponentLink1Description: Manufacturer Link; ComponentLink1URL: http://sg.renesas.com/fmwk.jsp?cnt=diode_landing.jsp&fp=/products/discrete/diodes/; ComponentLink2Description: Datasheet; ComponentLink2URL: http://documentation.renesas.com/eng/products/diode/rej03g0184_hzs.pdf; ComponentLink3Description: Packaging Specification; ComponentLink3URL: http://sg.renesas.com/media/products/common_info/package/pdf/diode/code/grzz0002zc_a.pdf
footprint GRZZ0002ZC-A (Diode, Axial; Body 2.4 x 2.2 mm (LxDia. max), Lead Dia. 0.4 mm (nom))
signal-integrity model HZS2A1
pins: 1 K, 2 A

## HZS2A2
designator D?
Silicon Epitaxial Planar Zener Diode for Stabilized Power Supply; Published: 12-Feb-2010; DatasheetVersion: Rev.5.00, Oct-2007; PackageVersion: Jul-2006; PackageReference: GRZZ0002ZC-A; Publisher: Altium Limited; PackageDescription: Diode, Axial; Body 2.4 x 2.0 mm (LxDia.), Lead Dia. 0.4 mm (nom); ComponentLink1Description: Manufacturer Link; ComponentLink1URL: http://sg.renesas.com/fmwk.jsp?cnt=diode_landing.jsp&fp=/products/discrete/diodes/; ComponentLink2Description: Datasheet; ComponentLink2URL: http://documentation.renesas.com/eng/products/diode/rej03g0184_hzs.pdf; ComponentLink3Description: Packaging Specification; ComponentLink3URL: http://sg.renesas.com/media/products/common_info/package/pdf/diode/code/grzz0002zc_a.pdf
footprint GRZZ0002ZC-A (Diode, Axial; Body 2.4 x 2.2 mm (LxDia. max), Lead Dia. 0.4 mm (nom))
signal-integrity model HZS2A2
pins: 1 K, 2 A

## HZS2A3
designator D?
Silicon Epitaxial Planar Zener Diode for Stabilized Power Supply; Published: 12-Feb-2010; DatasheetVersion: Rev.5.00, Oct-2007; PackageVersion: Jul-2006; PackageReference: GRZZ0002ZC-A; Publisher: Altium Limited; PackageDescription: Diode, Axial; Body 2.4 x 2.0 mm (LxDia.), Lead Dia. 0.4 mm (nom); ComponentLink1Description: Manufacturer Link; ComponentLink1URL: http://sg.renesas.com/fmwk.jsp?cnt=diode_landing.jsp&fp=/products/discrete/diodes/; ComponentLink2Description: Datasheet; ComponentLink2URL: http://documentation.renesas.com/eng/products/diode/rej03g0184_hzs.pdf; ComponentLink3Description: Packaging Specification; ComponentLink3URL: http://sg.renesas.com/media/products/common_info/package/pdf/diode/code/grzz0002zc_a.pdf
footprint GRZZ0002ZC-A (Diode, Axial; Body 2.4 x 2.2 mm (LxDia. max), Lead Dia. 0.4 mm (nom))
signal-integrity model HZS2A3
pins: 1 K, 2 A

## HZS2ALL
designator D?
Silicon Epitaxial Planar Zener Diode for Hard Knee Low Noise; Published: 12-Feb-2010; DatasheetVersion: Rev.3.00, Nov-2007; PackageVersion: Jul-2006; PackageReference: GRZZ0002ZC-A; Publisher: Altium Limited; PackageDescription: Diode, Axial; Body 2.4 x 2.0 mm (LxDia.), Lead Dia. 0.4 mm (nom); ComponentLink1Description: Manufacturer Link; ComponentLink1URL: http://sg.renesas.com/fmwk.jsp?cnt=diode_landing.jsp&fp=/products/discrete/diodes/; ComponentLink2Description: Datasheet; ComponentLink2URL: http://documentation.renesas.com/eng/products/diode/rej03g0167_hzs_ll.pdf; ComponentLink3Description: Packaging Specification; ComponentLink3URL: http://sg.renesas.com/media/products/common_info/package/pdf/diode/code/grzz0002zc_a.pdf
footprint GRZZ0002ZC-A (Diode, Axial; Body 2.4 x 2.2 mm (LxDia. max), Lead Dia. 0.4 mm (nom))
signal-integrity model HZS2ALL
pins: 1 K, 2 A

## HZS2B1
designator D?
Silicon Epitaxial Planar Zener Diode for Stabilized Power Supply; Published: 12-Feb-2010; DatasheetVersion: Rev.5.00, Oct-2007; PackageVersion: Jul-2006; PackageReference: GRZZ0002ZC-A; Publisher: Altium Limited; PackageDescription: Diode, Axial; Body 2.4 x 2.0 mm (LxDia.), Lead Dia. 0.4 mm (nom); ComponentLink1Description: Manufacturer Link; ComponentLink1URL: http://sg.renesas.com/fmwk.jsp?cnt=diode_landing.jsp&fp=/products/discrete/diodes/; ComponentLink2Description: Datasheet; ComponentLink2URL: http://documentation.renesas.com/eng/products/diode/rej03g0184_hzs.pdf; ComponentLink3Description: Packaging Specification; ComponentLink3URL: http://sg.renesas.com/media/products/common_info/package/pdf/diode/code/grzz0002zc_a.pdf
footprint GRZZ0002ZC-A (Diode, Axial; Body 2.4 x 2.2 mm (LxDia. max), Lead Dia. 0.4 mm (nom))
signal-integrity model HZS2B1
pins: 1 K, 2 A

## HZS2B2
designator D?
Silicon Epitaxial Planar Zener Diode for Stabilized Power Supply; Published: 12-Feb-2010; DatasheetVersion: Rev.5.00, Oct-2007; PackageVersion: Jul-2006; PackageReference: GRZZ0002ZC-A; Publisher: Altium Limited; PackageDescription: Diode, Axial; Body 2.4 x 2.0 mm (LxDia.), Lead Dia. 0.4 mm (nom); ComponentLink1Description: Manufacturer Link; ComponentLink1URL: http://sg.renesas.com/fmwk.jsp?cnt=diode_landing.jsp&fp=/products/discrete/diodes/; ComponentLink2Description: Datasheet; ComponentLink2URL: http://documentation.renesas.com/eng/products/diode/rej03g0184_hzs.pdf; ComponentLink3Description: Packaging Specification; ComponentLink3URL: http://sg.renesas.com/media/products/common_info/package/pdf/diode/code/grzz0002zc_a.pdf
footprint GRZZ0002ZC-A (Diode, Axial; Body 2.4 x 2.2 mm (LxDia. max), Lead Dia. 0.4 mm (nom))
signal-integrity model HZS2B2
pins: 1 K, 2 A

## HZS2B3
designator D?
Silicon Epitaxial Planar Zener Diode for Stabilized Power Supply; Published: 12-Feb-2010; DatasheetVersion: Rev.5.00, Oct-2007; PackageVersion: Jul-2006; PackageReference: GRZZ0002ZC-A; Publisher: Altium Limited; PackageDescription: Diode, Axial; Body 2.4 x 2.0 mm (LxDia.), Lead Dia. 0.4 mm (nom); ComponentLink1Description: Manufacturer Link; ComponentLink1URL: http://sg.renesas.com/fmwk.jsp?cnt=diode_landing.jsp&fp=/products/discrete/diodes/; ComponentLink2Description: Datasheet; ComponentLink2URL: http://documentation.renesas.com/eng/products/diode/rej03g0184_hzs.pdf; ComponentLink3Description: Packaging Specification; ComponentLink3URL: http://sg.renesas.com/media/products/common_info/package/pdf/diode/code/grzz0002zc_a.pdf
footprint GRZZ0002ZC-A (Diode, Axial; Body 2.4 x 2.2 mm (LxDia. max), Lead Dia. 0.4 mm (nom))
signal-integrity model HZS2B3
pins: 1 K, 2 A

## HZS2BLL
designator D?
Silicon Epitaxial Planar Zener Diode for Hard Knee Low Noise; Published: 12-Feb-2010; DatasheetVersion: Rev.3.00, Nov-2007; PackageVersion: Jul-2006; PackageReference: GRZZ0002ZC-A; Publisher: Altium Limited; PackageDescription: Diode, Axial; Body 2.4 x 2.0 mm (LxDia.), Lead Dia. 0.4 mm (nom); ComponentLink1Description: Manufacturer Link; ComponentLink1URL: http://sg.renesas.com/fmwk.jsp?cnt=diode_landing.jsp&fp=/products/discrete/diodes/; ComponentLink2Description: Datasheet; ComponentLink2URL: http://documentation.renesas.com/eng/products/diode/rej03g0167_hzs_ll.pdf; ComponentLink3Description: Packaging Specification; ComponentLink3URL: http://sg.renesas.com/media/products/common_info/package/pdf/diode/code/grzz0002zc_a.pdf
footprint GRZZ0002ZC-A (Diode, Axial; Body 2.4 x 2.2 mm (LxDia. max), Lead Dia. 0.4 mm (nom))
signal-integrity model HZS2BLL
pins: 1 K, 2 A

## HZS2C1
designator D?
Silicon Epitaxial Planar Zener Diode for Stabilized Power Supply; Published: 12-Feb-2010; DatasheetVersion: Rev.5.00, Oct-2007; PackageVersion: Jul-2006; PackageReference: GRZZ0002ZC-A; Publisher: Altium Limited; PackageDescription: Diode, Axial; Body 2.4 x 2.0 mm (LxDia.), Lead Dia. 0.4 mm (nom); ComponentLink1Description: Manufacturer Link; ComponentLink1URL: http://sg.renesas.com/fmwk.jsp?cnt=diode_landing.jsp&fp=/products/discrete/diodes/; ComponentLink2Description: Datasheet; ComponentLink2URL: http://documentation.renesas.com/eng/products/diode/rej03g0184_hzs.pdf; ComponentLink3Description: Packaging Specification; ComponentLink3URL: http://sg.renesas.com/media/products/common_info/package/pdf/diode/code/grzz0002zc_a.pdf
footprint GRZZ0002ZC-A (Diode, Axial; Body 2.4 x 2.2 mm (LxDia. max), Lead Dia. 0.4 mm (nom))
signal-integrity model HZS2C1
pins: 1 K, 2 A

## HZS2C2
designator D?
Silicon Epitaxial Planar Zener Diode for Stabilized Power Supply; Published: 12-Feb-2010; DatasheetVersion: Rev.5.00, Oct-2007; PackageVersion: Jul-2006; PackageReference: GRZZ0002ZC-A; Publisher: Altium Limited; PackageDescription: Diode, Axial; Body 2.4 x 2.0 mm (LxDia.), Lead Dia. 0.4 mm (nom); ComponentLink1Description: Manufacturer Link; ComponentLink1URL: http://sg.renesas.com/fmwk.jsp?cnt=diode_landing.jsp&fp=/products/discrete/diodes/; ComponentLink2Description: Datasheet; ComponentLink2URL: http://documentation.renesas.com/eng/products/diode/rej03g0184_hzs.pdf; ComponentLink3Description: Packaging Specification; ComponentLink3URL: http://sg.renesas.com/media/products/common_info/package/pdf/diode/code/grzz0002zc_a.pdf
footprint GRZZ0002ZC-A (Diode, Axial; Body 2.4 x 2.2 mm (LxDia. max), Lead Dia. 0.4 mm (nom))
signal-integrity model HZS2C2
pins: 1 K, 2 A

## HZS2C3
designator D?
Silicon Epitaxial Planar Zener Diode for Stabilized Power Supply; Published: 12-Feb-2010; DatasheetVersion: Rev.5.00, Oct-2007; PackageVersion: Jul-2006; PackageReference: GRZZ0002ZC-A; Publisher: Altium Limited; PackageDescription: Diode, Axial; Body 2.4 x 2.0 mm (LxDia.), Lead Dia. 0.4 mm (nom); ComponentLink1Description: Manufacturer Link; ComponentLink1URL: http://sg.renesas.com/fmwk.jsp?cnt=diode_landing.jsp&fp=/products/discrete/diodes/; ComponentLink2Description: Datasheet; ComponentLink2URL: http://documentation.renesas.com/eng/products/diode/rej03g0184_hzs.pdf; ComponentLink3Description: Packaging Specification; ComponentLink3URL: http://sg.renesas.com/media/products/common_info/package/pdf/diode/code/grzz0002zc_a.pdf
footprint GRZZ0002ZC-A (Diode, Axial; Body 2.4 x 2.2 mm (LxDia. max), Lead Dia. 0.4 mm (nom))
signal-integrity model HZS2C3
pins: 1 K, 2 A

## HZS2CLL
designator D?
Silicon Epitaxial Planar Zener Diode for Hard Knee Low Noise; Published: 12-Feb-2010; DatasheetVersion: Rev.3.00, Nov-2007; PackageVersion: Jul-2006; PackageReference: GRZZ0002ZC-A; Publisher: Altium Limited; PackageDescription: Diode, Axial; Body 2.4 x 2.0 mm (LxDia.), Lead Dia. 0.4 mm (nom); ComponentLink1Description: Manufacturer Link; ComponentLink1URL: http://sg.renesas.com/fmwk.jsp?cnt=diode_landing.jsp&fp=/products/discrete/diodes/; ComponentLink2Description: Datasheet; ComponentLink2URL: http://documentation.renesas.com/eng/products/diode/rej03g0167_hzs_ll.pdf; ComponentLink3Description: Packaging Specification; ComponentLink3URL: http://sg.renesas.com/media/products/common_info/package/pdf/diode/code/grzz0002zc_a.pdf
footprint GRZZ0002ZC-A (Diode, Axial; Body 2.4 x 2.2 mm (LxDia. max), Lead Dia. 0.4 mm (nom))
signal-integrity model HZS2CLL
pins: 1 K, 2 A